# Altium schematic symbol library 5V Voltage Regulators.SchLib: 1 symbol
Pins are listed as number, name and electrical type; pins without a type are passive.

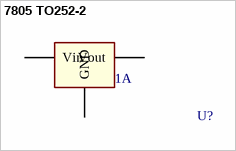
[diagram p0: symbol 7805 TO252-2]

## 7805 TO252-2
designator U?  Current: 1A  (hidden comment: 7805 TO252-2)
Linear Voltage Regulator IC  1 Output  1A TO-252-2; Manufacturer 1: Diodes Incorporated; Manufacturer 1 PN: AS7805ADTR-G1; ComponentLink1Description: Datasheet; ComponentLink1URL: https://www.diodes.com/assets/Datasheets/AS78XXA.pdf; Digikey PN: AS7805ADTR-G1DICT-ND; Mouser PN: 621-AS7805ADTR-G1
footprint 7805 DPAK (Linear Voltage Regulator IC  1 Output  1A TO-252-2)
pins: 1 Vin (power), 3 Vout (power), 4 GND (power)